# EAGLE library part MOLEX-RJ11-6-6-2GANG (library Pygmy)
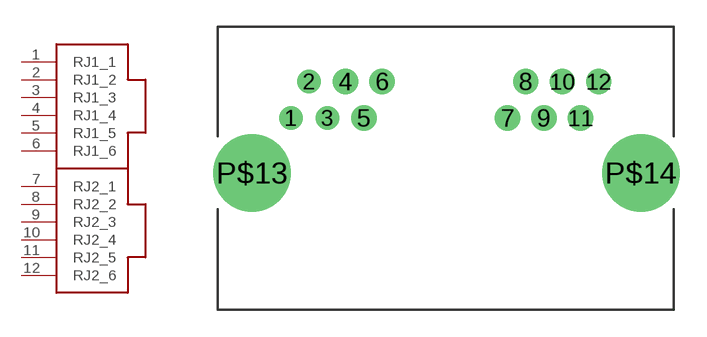
[diagram p22: symbol with the pads of MOLEX-RJ11-6-6-RA-2GANG; footprint MOLEX-RJ11-6-6-RA-2GANG]

Designator prefix -

## MOLEX-RJ11-6-6-2GANG  [MOLEX-RJ11-6-6-RA-2GANG]
1  RJ1_1
2  RJ1_2
3  RJ1_3
4  RJ1_4
5  RJ1_5
6  RJ1_6
7  RJ2_1
8  RJ2_2
9  RJ2_3
10  RJ2_4
11  RJ2_5
12  RJ2_6

## Footprint MOLEX-RJ11-6-6-RA-2GANG (pad centres in mm)
drill 0.8: 1 0,3.048; 2 1.016,5.08; 3 2.032,3.048
drill 0.9: 4 3.048,5.08; 5 4.064,3.048; 6 5.08,5.08; 7 12.065,3.048; 8 13.081,5.08; 9 14.097,3.048; 10 15.113,5.08; 11 16.129,3.048; 12 17.145,5.08
drill 3.302: P$13 -2.159,0; P$14 19.494,0